# Altium schematic symbol library sch.SCHLIB: 30 symbols
Pins are listed as number, name and electrical type; pins without a type are passive.

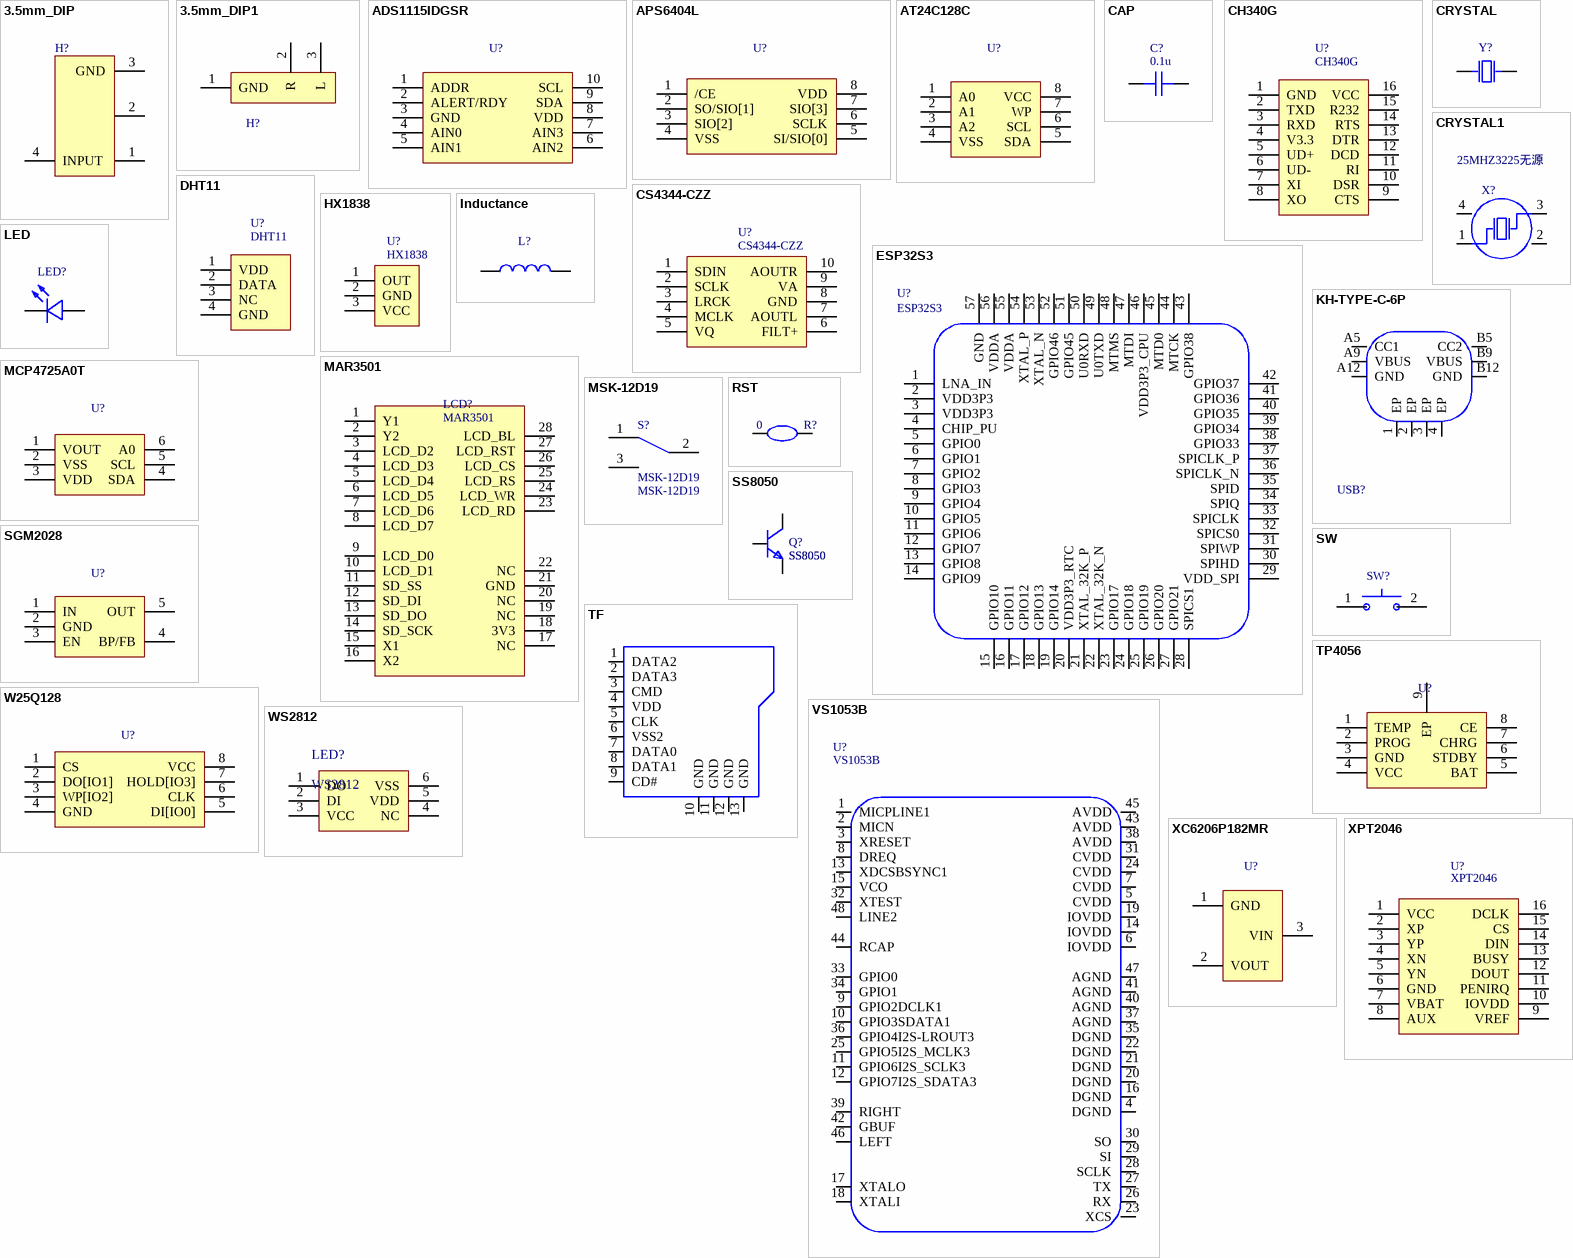
[diagram p0: symbols 3.5mm_DIP to XPT2046]

## 3.5mm_DIP
designator H?
Symbol: 3.5mm_DIP; Add into BOM: yes; Origin Footprint: PJ320D; Device: 3.5mm_DIP; Convert to PCB: yes
footprint PJ320D
pins: 1, 2, 3 GND, 4 INPUT

## 3.5mm_DIP1
designator H?
Symbol: TRS; Add into BOM: yes; Device: TRS; Convert to PCB: yes; Origin Footprint: TRS
footprint TRS
pins: 1 GND, 2 R, 3 L

## ADS1115IDGSR
designator U?
Symbol: ADS1115IDGSR; Add into BOM: yes; Origin Footprint: MSOP-10_L3.0-W3.0-P0.50-LS5.0-BL; Device: ADS1115IDGSR; Convert to PCB: yes
footprint MSOP-10_L3.0-W3.0-P0.50-LS5.0-BL
pins: 1 ADDR, 2 ALERT/RDY, 3 GND, 4 AIN0, 5 AIN1, 6 AIN2, 7 AIN3, 8 VDD, 9 SDA, 10 SCL

## APS6404L
designator U?
Symbol: APS6404L-3SQR-SN; Add into BOM: yes; Origin Footprint: SOP-8_L4.9-W3.9-P1.27-LS6.0-BL; Device: APS6404L-3SQR-SN; Convert to PCB: yes; link: https://img.jlc.com/pdf/applyPasteComponent/2021-12-06/31098A/66796366ab5e49f0a48d07582eff2f2b/APS6404L-3SQR-SN.pdf
footprint SOP-8_L4.9-W3.9-P1.27-LS6.0-BL
pins: 1 /CE, 2 SO/SIO[1], 3 SIO[2], 4 VSS, 5 SI/SIO[0], 6 SCLK, 7 SIO[3], 8 VDD

## AT24C128C
designator U?
Symbol: AT24C128C-SSHM-T; Add into BOM: yes; Origin Footprint: SOIC-8_L4.9-W3.9-P1.27-LS6.0-BL; Device: AT24C128C-SSHM-T; Convert to PCB: yes
footprint SOIC-8_L4.9-W3.9-P1.27-LS6.0-BL
pins: 1 A0, 2 A1, 3 A2, 4 VSS, 5 SDA, 6 SCL, 7 WP, 8 VCC

## CAP
designator C?, comment 0.1u
Add into BOM: yes; Origin Footprint: C0805; Symbol: 0.1u; Device: 0.1u; Convert to PCB: yes
footprint C0603
pins: 1, 2

## CH340G
designator U?
Add into BOM: yes; Symbol: CH340G; Device: CH340G; Convert to PCB: yes; Origin Footprint: CH340G
footprint CH340G
pins: 1 GND, 2 TXD, 3 RXD, 4 V3.3, 5 UD+, 6 UD-, 7 XI, 8 XO, 9 CTS, 10 DSR, 11 RI, 12 DCD, 13 DTR, 14 RTS, 15 R232, 16 VCC

## CRYSTAL
designator Y?
Symbol: 9B-12.288MAAJ-B; Add into BOM: yes; Origin Footprint: HC-49US_L11.5-W4.5-P4.88; Name: 9B-12.288MAAJ-B; Device: 9B-12.288MAAJ-B; Convert to PCB: yes
footprint HC-49US_L11.5-W4.5-P4.88
pins: 1 OSC1, 2 OSC2

## CRYSTAL1
designator X?  Name: 25MHZ3225无源
Add into BOM: yes; Origin Footprint: CRYSTAL-SMD_4P-L3.2-W2.5-BL; Symbol: 25MHZ3225无源; Device: 25MHZ3225无源; Convert to PCB: yes
footprint CRYSTAL-SMD_4P-L3.2-W2.5-BL
pins: 1 OSC1, 2 GND, 3 OSC2, 4 GND

## CS4344-CZZ
designator U?
Add into BOM: yes; Origin Footprint: TSSOP-10_L3.0-W3.0-P0.50-LS4.9-BL; Symbol: CS4344-CZZ; Device: CS4344-CZZ; Convert to PCB: yes
footprint TSSOP-10_L3.0-W3.0-P0.50-LS4.9-BL
pins: 1 SDIN, 2 SCLK, 3 LRCK, 4 MCLK, 5 VQ, 6 FILT+, 7 AOUTL, 8 GND, 9 VA, 10 AOUTR

## DHT11
designator U?
Add into BOM: yes; Origin Footprint: SENSOR-TH_DHT11; Symbol: DHT11; Device: DHT11; Convert to PCB: yes
footprint SENSOR-TH_DHT11
pins: 1 VDD, 2 DATA, 3 NC, 4 GND

## ESP32S3
designator U?
Add into BOM: yes; Origin Footprint: ESP32-S3-QFN56; Symbol: ESP32S3; Device: ESP32S3; Convert to PCB: yes
footprint ESP32-S3-QFN56
pins: 1 LNA_IN, 2 VDD3P3, 3 VDD3P3, 4 CHIP_PU, 5 GPIO0, 6 GPIO1, 7 GPIO2, 8 GPIO3, 9 GPIO4, 10 GPIO5, 11 GPIO6, 12 GPIO7, 13 GPIO8, 14 GPIO9, 15 GPIO10, 16 GPIO11, 17 GPIO12, 18 GPIO13, 19 GPIO14, 20 VDD3P3_RTC, 21 XTAL_32K_P, 22 XTAL_32K_N, 23 GPIO17, 24 GPIO18, 25 GPIO19, 26 GPIO20, 27 GPIO21, 28 SPICS1, 29 VDD_SPI, 30 SPIHD, 31 SPIWP, 32 SPICS0, 33 SPICLK, 34 SPIQ, 35 SPID, 36 SPICLK_N, 37 SPICLK_P, 38 GPIO33, 39 GPIO34, 40 GPIO35, 41 GPIO36, 42 GPIO37, 43 GPIO38, 44 MTCK, 45 MTD0, 46 VDD3P3_CPU, 47 MTDI, 48 MTMS, 49 U0TXD, 50 U0RXD, 51 GPIO45, 52 GPIO46, 53 XTAL_N, 54 XTAL_P, 55 VDDA, 56 VDDA, 57 GND

## HX1838
designator U?
Add into BOM: yes; Symbol: HX1838; Device: HX1838; Convert to PCB: yes; Origin Footprint: HX1838; link: HX1838
footprint HX1838
pins: 1 OUT, 2 GND, 3 VCC

## Inductance
designator L?
Symbol: 1m; Add into BOM: yes; Origin Footprint: L1608; Device: 1m; Convert to PCB: yes
footprint L0805
pins: 1, 2

## KH-TYPE-C-6P
designator USB?
Symbol: KH-TYPE-C-6P; Add into BOM: yes; Origin Footprint: TYPE-C-SMD_TYPE-C-31-M-16; Name: KH-TYPE-C-6P; Device: KH-TYPE-C-6P; Convert to PCB: yes
footprint TYPE-C-SMD_TYPE-C-31-M-16
pins: 1 EP, 2 EP, 3 EP, 4 EP, A5 CC1, A9 VBUS, A12 GND, B5 CC2, B9 VBUS, B12 GND

## LED
designator LED?, comment L-C292WDT-5A-YY  (value not drawn)
Add into BOM: yes; Origin Footprint: LED0805-RD; Symbol: L-C292WDT-5A-YY; Name: L-C292WDT-5A-YY; Device: L-C292WDT-5A-YY; Convert to PCB: yes
footprint LED0805-RD
pins: 1 +, 2 -

## MAR3501
designator LCD?
Add into BOM: yes; Symbol: MAR3501; Device: MAR3501; Convert to PCB: yes; Origin Footprint: MAR3501
footprint MAR3501
pins: 1 Y1, 2 Y2, 3 LCD_D2, 4 LCD_D3, 5 LCD_D4, 6 LCD_D5, 7 LCD_D6, 8 LCD_D7, 9 LCD_D0, 10 LCD_D1, 11 SD_SS, 12 SD_DI, 13 SD_DO, 14 SD_SCK, 15 X1, 16 X2, 17 NC, 18 3V3, 19 NC, 20 NC, 21 GND, 22 NC, 23 LCD_RD, 24 LCD_WR, 25 LCD_RS, 26 LCD_CS, 27 LCD_RST, 28 LCD_BL

## MCP4725A0T
designator U?
Symbol: MCP4725A0T-E/CH; Add into BOM: yes; Origin Footprint: SOT-23-6_L2.9-W1.6-P0.95-LS2.8-BR; Device: MCP4725A0T-E/CH; Convert to PCB: yes
footprint SOT-23-6_L2.9-W1.6-P0.95-LS2.8-BR
pins: 1 VOUT, 2 VSS, 3 VDD, 4 SDA, 5 SCL, 6 A0

## MSK-12D19
designator S?
Add into BOM: yes; Symbol: MSK-12D19; Device: MSK-12D19; Convert to PCB: yes; Origin Footprint: MSK-12D19; Name: MSK-12D19
footprint MSK-12D19
pins: 1 A, 2 B, 3 C

## RST
designator R?, comment 0
Symbol: 0_; Add into BOM: yes; Origin Footprint: R0805; Device: 0_; Convert to PCB: yes
footprint R0805
pins: 1, 2

## SGM2028
designator U?
Symbol: SGM2028-3.3YN5G/TR; Add into BOM: yes; Origin Footprint: SOT-23-5_L3.0-W1.7-P0.95-LS2.8-BR; Device: SGM2028-3.3YN5G/TR; Convert to PCB: yes
footprint SOT-23-5_L3.0-W1.7-P0.95-LS2.8-BR
pins: 1 IN, 2 GND, 3 EN, 4 BP/FB, 5 OUT

## SS8050
designator Q?
Add into BOM: yes; Origin Footprint: SOT-23-3_L2.9-W1.3-P1.90-LS2.4-BR; Symbol: SS8050; Device: SS8050; Convert to PCB: yes; Name: SS8050
footprint SOT-23-3_L2.9-W1.3-P1.90-LS2.4-BR
pins: 1 B, 2 E, 3 C

## SW
designator SW?, comment 无声微动开关  (value not drawn)
Add into BOM: yes; Origin Footprint: SW-SMD_L6.0-W6.0-P6.00-LS6.6; Symbol: 无声微动开关; Name: 无声微动开关; Device: 无声微动开关; Convert to PCB: yes
footprint SW-SMD_L6.0-W6.0-P6.00-LS6.6
pins: 1, 2

## TF
designator TF?
Symbol: TF_1; Add into BOM: yes; Device: TF_1; Convert to PCB: yes
footprint TF-SMD_XKTF-N02-N_1
pins: 1 DATA2, 2 DATA3, 3 CMD, 4 VDD, 5 CLK, 6 VSS2, 7 DATA0, 8 DATA1, 9 CD#, 10 GND, 11 GND, 12 GND, 13 GND

## TP4056
designator U?
Symbol: TP4056_C725790; Add into BOM: yes; Origin Footprint: ESOP-8_L4.9-W3.9-P1.27-LS6.0-BL-EP; Device: TP4056_C725790; Convert to PCB: yes
footprint ESOP-8_L4.9-W3.9-P1.27-LS6.0-BL-EP
pins: 1 TEMP, 2 PROG, 3 GND, 4 VCC, 5 BAT, 6 STDBY, 7 CHRG, 8 CE, 9 EP

## VS1053B
designator U?
Add into BOM: yes; Origin Footprint: LQFP-48_L7.0-W7.0-P0.50-LS9.0-BL; Symbol: VS1053B; Device: VS1053B; Convert to PCB: yes
footprint LQFP-48_L7.0-W7.0-P0.50-LS9.0-BL
pins: 1 MICPLINE1, 2 MICN, 3 XRESET, 4 DGND, 5 CVDD, 6 IOVDD, 7 CVDD, 8 DREQ, 9 GPIO2DCLK1, 10 GPIO3SDATA1, 11 GPIO6I2S_SCLK3, 12 GPIO7I2S_SDATA3, 13 XDCSBSYNC1, 14 IOVDD, 15 VCO, 16 DGND, 17 XTALO, 18 XTALI, 19 IOVDD, 20 DGND, 21 DGND, 22 DGND, 23 XCS, 24 CVDD, 25 GPIO5I2S_MCLK3, 26 RX, 27 TX, 28 SCLK, 29 SI, 30 SO, 31 CVDD, 32 XTEST, 33 GPIO0, 34 GPIO1, 35 DGND, 36 GPIO4I2S-LROUT3, 37 AGND, 38 AVDD, 39 RIGHT, 40 AGND, 41 AGND, 42 GBUF, 43 AVDD, 44 RCAP, 45 AVDD, 46 LEFT, 47 AGND, 48 LINE2

## W25Q128
designator U?
Symbol: W25Q128JVSIQ; Add into BOM: yes; Origin Footprint: SOIC-8_L5.3-W5.3-P1.27-LS8.0-BL; Device: W25Q128JVSIQ; Convert to PCB: yes
footprint SOIC-8_L5.3-W5.3-P1.27-LS8.0-BL
pins: 1 CS, 2 DO[IO1], 3 WP[IO2], 4 GND, 5 DI[IO0], 6 CLK, 7 HOLD[IO3], 8 VCC

## WS2812
designator LED?
footprint LED-SMD_6P-L5.0-W5.0-TL
pins: 1 DO, 2 DI, 3 VCC, 4 NC, 5 VDD, 6 VSS

## XC6206P182MR
designator U?
Symbol: XC6206P182MR; Add into BOM: yes; Origin Footprint: SOT-23-3_L2.9-W1.6-P1.90-LS2.8-BR; Device: XC6206P182MR; Convert to PCB: yes
footprint SOT-23-3_L2.9-W1.6-P1.90-LS2.8-BR
pins: 1 GND, 2 VOUT, 3 VIN

## XPT2046
designator U?
Add into BOM: yes; Origin Footprint: TSSOP-16_L5.0-W4.4-P0.65-LS6.4-BL; Symbol: XPT2046; Device: XPT2046; Convert to PCB: yes
footprint TSSOP-16_L5.0-W4.4-P0.65-LS6.4-BL
pins: 1 VCC, 2 XP, 3 YP, 4 XN, 5 YN, 6 GND, 7 VBAT, 8 AUX, 9 VREF, 10 IOVDD, 11 PENIRQ, 12 DOUT, 13 BUSY, 14 DIN, 15 CS, 16 DCLK